# EAGLE library part ADS1225_RGV_16 (library shit)
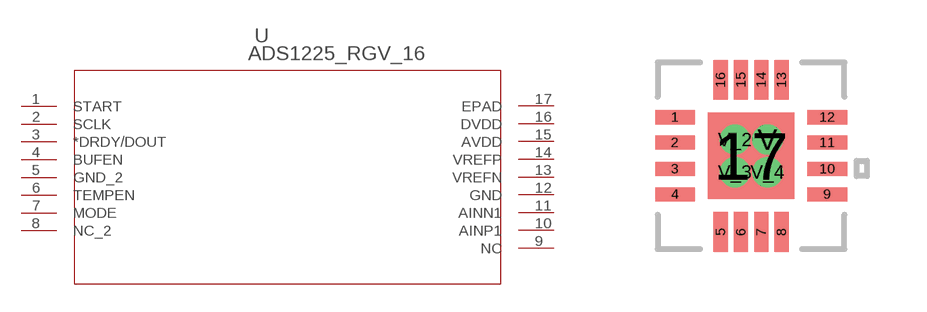
[diagram p6: symbol with the pads of RGV16_2P16X2P16; footprint RGV16_2P16X2P16]

Designator prefix U

## ADS1225_RGV_16 (DATASHEETURL: http://www.ti.com/lit/gpn/ADS1225; DESCRIPTION: 24-bit, 100SPS ADC with Differential Input and Internal Oscillator; FAMILY_NAME: PRECISION ADC (<=10MSPS); GENERIC_PART_NUMBER: ADS1225; INDUSTRY_STD_PKG_TYPE: VQFN; MANUFACTURER: Texas Instruments; PACKAGE_DESIGNATOR: RGV; PIN_COUNT: 16)  [RGV16_2P16X2P16]
1  START  in
2  SCLK  in
3  *DRDY/DOUT  out
4  BUFEN  in
5  GND_2  pwr
6  TEMPEN  in
7  MODE  in
8  NC_2  nc
9  NC  nc
10  AINP1  in
11  AINN1  in
12  GND  pwr
13  VREFN  in
14  VREFP  in
15  AVDD  pwr
16  DVDD  pwr
17  EPAD  pwr

## Footprint RGV16_2P16X2P16 (pad centres in mm)
smd 0.991 x 0.356: 1 -1.905,0.965; 2 -1.905,0.33; 3 -1.905,-0.33; 4 -1.905,-0.965; 9 1.905,-0.965; 10 1.905,-0.33; 11 1.905,0.33; 12 1.905,0.965
smd 0.356 x 0.991: 5 -0.762,-1.905; 6 -0.254,-1.905; 7 0.254,-1.905; 8 0.762,-1.905; 13 0.762,1.905; 14 0.254,1.905; 15 -0.254,1.905; 16 -0.762,1.905
smd 2.159 x 2.159: 17 0,0
drill 0.254: V 0.406,0.406; V_2 -0.406,0.406; V_3 -0.406,-0.406; V_4 0.406,-0.406